# Altium footprint library HO 25-PSP33 footp symb.PcbLib: 1 footprints
Each footprint in its own frame and in the unit in brackets; x right, y up, seen from the top. Pads: shape width x height; smd on the part's side, far side on the other; paste and mask are expansions set on the pad; w line width, h text height; cw(c..) or ccw(c..) is an arc to the next point about the centre after c.
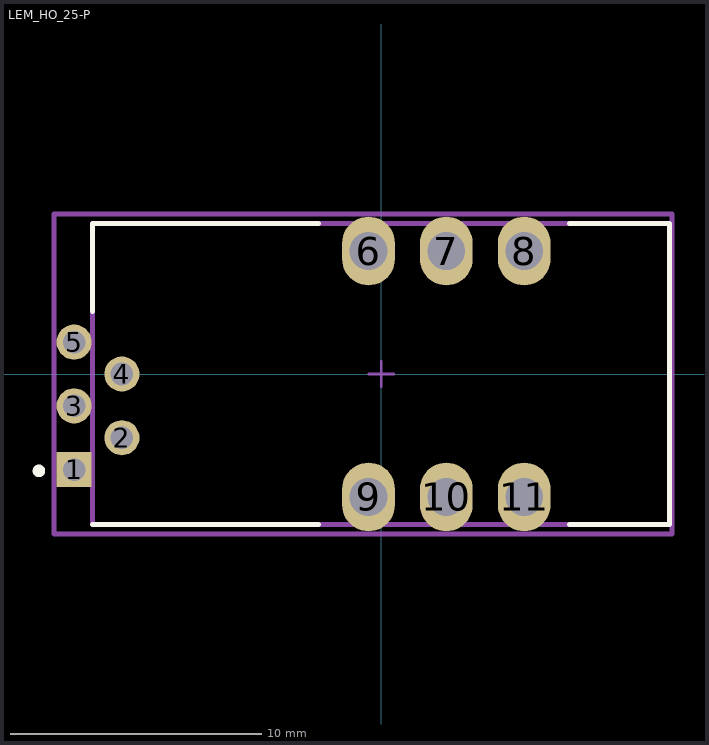
[diagram p0: the footprint, top view; thin cyan lines are the x and y axes]

## LEM_HO_25-P [mm] "Current Sensor 25A 1 Channel Hall Effect, Open Loop Bidirectional Module, Single Pass Through, 5V"
pads (11):
  rect 1.4x1.4 hole 0.9 paste-2539.97 mask+0: 1(-12.235,-3.81)
  round 1.4 hole 0.9 paste-2539.97 mask+0: 2(-10.33,-2.54) 3(-12.235,-1.27) 4(-10.33,0) 5(-12.235,1.27)
  rrect100% 2.1x2.74 hole 1.5 paste-2539.97 mask+0: 6(-0.5,4.9) 7(2.6,4.9) 8(5.7,4.9) 9(-0.5,-4.9) 10(2.6,-4.9) 11(5.7,-4.9)
Top Overlay:
  circle w0.25: c-13.635,-3.86 r0.125
  lines w0.2: -11.5,-6 -2.5,-6 ; -11.5,2.5 -11.5,6 -2.5,6 ; 7.5,-6 11.5,-6 11.5,6 7.5,6
Top Assembly:
  lines w0.2: -13.035,-6.37 11.6,-6.37 11.6,6.37 -13.035,6.37 -13.035,-6.37
  text ".Designator" at -0.718,0.188 h1
Top 3D Body:
  lines w0.2: -11.5,-6 11.5,-6 11.5,6 -11.5,6 -11.5,-6
Top Courtyard:
  lines w0.2: -13.035,-6.37 11.6,-6.37 11.6,6.37 -13.035,6.37 -13.035,-6.37
Top Component Center:
  lines w0.1: -0.5,0 0.5,0 ; 0,-0.5 0,0.5
3D body "IC_LEM_HO_25-P-SP33_eec.STEP": height 0.25, standoff 0, extent -13.035,-6.37 11.6,6.37